# Altium integrated library Renesas Microcontroller H8.IntLib: 489 symbols (part 15 of 25)
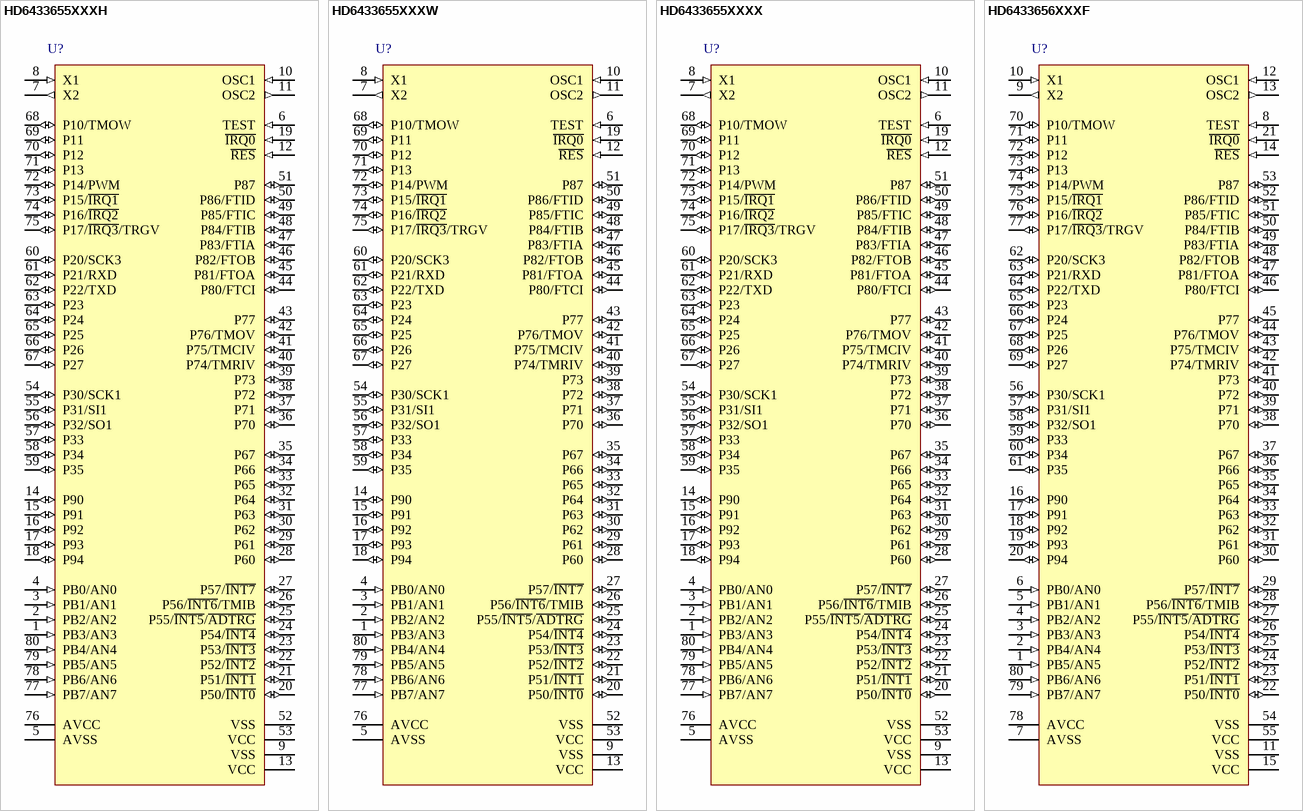
[diagram p102: symbols HD6433655XXXH to HD6433656XXXF]

## HD6433655XXXW
designator U?
H8 Family 8-bit MCU, H8/300L, 40K ROM, 2K RAM, 2.5MHz, 2.2 to 5.5V, 80-Pin QFP; Published: 28-Aug-2009; DatasheetVersion: Oct-1997; PackageVersion: Sep-2005; PackageReference: PTQP0080KC-A; Publisher: Altium Limited; PackageDescription: 80-Pin Plastic Thin Quad Flat Pack, 12 x 12 x 1.0 mm Body, 0.5 mm Pitch; Code_JEITA: P-TQFP80-12x12-0.50; ComponentLink1Description: Manufacturer Link; ComponentLink1URL: http://sg.renesas.com/fmwk.jsp?cnt=h8_family_landing.jsp&fp=/products/mpumcu/h8_family/; ComponentLink2Description: Datasheet; ComponentLink2URL: http://documentation.renesas.com/eng/products/mpumcu/e602134_h83657.pdf; ComponentLink3Description: Packaging Specification; ComponentLink3URL: http://sg.renesas.com/media/products/common_info/package/pdf/ic/code/ptqp0080kc_a.pdf
footprint PTQP0080KC-A_N (Thin QFP, 80-Leads, Body 12x12mm, Pitch 0.5mm, IPC Medium Density)
footprint PTQP0080KC-A_L (Thin QFP, 80-Leads, Body 12x12mm, Pitch 0.5mm, IPC High Density)
footprint PTQP0080KC-A_M (Thin QFP, 80-Leads, Body 12x12mm, Pitch 0.5mm, IPC Low Density)
pins: 1 PB3/AN3 (in), 2 PB2/AN2 (in), 3 PB1/AN1 (in), 4 PB0/AN0 (in), 5 AVSS (power), 6 TEST (in), 7 X2 (out), 8 X1 (in), 9 VSS (power), 10 OSC1 (in), 11 OSC2 (out), 12 ~{RES} (in), 13 VCC (power), 14 P90 (io), 15 P91 (io), 16 P92 (io), 17 P93 (io), 18 P94 (io), 19 ~{IRQ0} (in), 20 P50/~{INT0} (io), 21 P51/~{INT1} (io), 22 P52/~{INT2} (io), 23 P53/~{INT3} (io), 24 P54/~{INT4} (io), 25 P55/~{INT5}/~{ADTRG} (io), 26 P56/~{INT6}/TMIB (io), 27 P57/~{INT7} (io), 28 P60 (io), 29 P61 (io), 30 P62 (io), 31 P63 (io), 32 P64 (io), 33 P65 (io), 34 P66 (io), 35 P67 (io), 36 P70 (io), 37 P71 (io), 38 P72 (io), 39 P73 (io), 40 P74/TMRIV (io), 41 P75/TMCIV (io), 42 P76/TMOV (io), 43 P77 (io), 44 P80/FTCI (io), 45 P81/FTOA (io), 46 P82/FTOB (io), 47 P83/FTIA (io), 48 P84/FTIB (io), 49 P85/FTIC (io), 50 P86/FTID (io), 51 P87 (io), 52 VSS (power), 53 VCC (power), 54 P30/SCK1 (io), 55 P31/SI1 (io), 56 P32/SO1 (io), 57 P33 (io), 58 P34 (io), 59 P35 (io), 60 P20/SCK3 (io), 61 P21/RXD (io), 62 P22/TXD (io), 63 P23 (io), 64 P24 (io), 65 P25 (io), 66 P26 (io), 67 P27 (io), 68 P10/TMOW (io), 69 P11 (io), 70 P12 (io), 71 P13 (io), 72 P14/PWM (io), 73 P15/~{IRQ1} (io), 74 P16/~{IRQ2} (io), 75 P17/~{IRQ3}/TRGV (io), 76 AVCC (power), 77 PB7/AN7 (in), 78 PB6/AN6 (in), 79 PB5/AN5 (in), 80 PB4/AN4 (in)

## HD6433655XXXX
designator U?
H8 Family 8-bit MCU, H8/300L, 40K ROM, 2K RAM, 2.5MHz, 2.2 to 5.5V, 80-Pin QFP; Published: 28-Aug-2009; DatasheetVersion: Oct-1997; PackageVersion: Sep-2005; PackageReference: PTQP0080JA-B; Publisher: Altium Limited; PackageDescription: 80-Pin Plastic Thin Quad Flat Pack, 14 x 14 x 1.0 mm Body, 0.65 mm Pitch; Code_JEITA: P-TQFP80-14x14-0.65; ComponentLink1Description: Manufacturer Link; ComponentLink1URL: http://sg.renesas.com/fmwk.jsp?cnt=h8_family_landing.jsp&fp=/products/mpumcu/h8_family/; ComponentLink2Description: Datasheet; ComponentLink2URL: http://documentation.renesas.com/eng/products/mpumcu/e602134_h83657.pdf; ComponentLink3Description: Packaging Specification; ComponentLink3URL: http://sg.renesas.com/media/products/common_info/package/pdf/ic/code/ptqp0080ja_b.pdf
footprint PTQP0080JA-B_N (Thin QFP, 80-Leads, Body 14 x 14mm, Pitch 0.65mm, IPC Medium Density)
footprint PTQP0080JA-B_L (Thin QFP, 80-Leads, Body 14 x 14mm, Pitch 0.65mm, IPC High Density)
footprint PTQP0080JA-B_M (Thin QFP, 80-Leads, Body 14 x 14mm, Pitch 0.65mm, IPC Low Density)
pins: 1 PB3/AN3 (in), 2 PB2/AN2 (in), 3 PB1/AN1 (in), 4 PB0/AN0 (in), 5 AVSS (power), 6 TEST (in), 7 X2 (out), 8 X1 (in), 9 VSS (power), 10 OSC1 (in), 11 OSC2 (out), 12 ~{RES} (in), 13 VCC (power), 14 P90 (io), 15 P91 (io), 16 P92 (io), 17 P93 (io), 18 P94 (io), 19 ~{IRQ0} (in), 20 P50/~{INT0} (io), 21 P51/~{INT1} (io), 22 P52/~{INT2} (io), 23 P53/~{INT3} (io), 24 P54/~{INT4} (io), 25 P55/~{INT5}/~{ADTRG} (io), 26 P56/~{INT6}/TMIB (io), 27 P57/~{INT7} (io), 28 P60 (io), 29 P61 (io), 30 P62 (io), 31 P63 (io), 32 P64 (io), 33 P65 (io), 34 P66 (io), 35 P67 (io), 36 P70 (io), 37 P71 (io), 38 P72 (io), 39 P73 (io), 40 P74/TMRIV (io), 41 P75/TMCIV (io), 42 P76/TMOV (io), 43 P77 (io), 44 P80/FTCI (io), 45 P81/FTOA (io), 46 P82/FTOB (io), 47 P83/FTIA (io), 48 P84/FTIB (io), 49 P85/FTIC (io), 50 P86/FTID (io), 51 P87 (io), 52 VSS (power), 53 VCC (power), 54 P30/SCK1 (io), 55 P31/SI1 (io), 56 P32/SO1 (io), 57 P33 (io), 58 P34 (io), 59 P35 (io), 60 P20/SCK3 (io), 61 P21/RXD (io), 62 P22/TXD (io), 63 P23 (io), 64 P24 (io), 65 P25 (io), 66 P26 (io), 67 P27 (io), 68 P10/TMOW (io), 69 P11 (io), 70 P12 (io), 71 P13 (io), 72 P14/PWM (io), 73 P15/~{IRQ1} (io), 74 P16/~{IRQ2} (io), 75 P17/~{IRQ3}/TRGV (io), 76 AVCC (power), 77 PB7/AN7 (in), 78 PB6/AN6 (in), 79 PB5/AN5 (in), 80 PB4/AN4 (in)

## HD6433656XXXF
designator U?
H8 Family 8-bit MCU, H8/300L, 48K ROM, 2K RAM, 2.5MHz, 2.2 to 5.5V, 80-Pin QFP; Published: 28-Aug-2009; DatasheetVersion: Oct-1997; PackageVersion: Sep-2005; PackageReference: PRQP0080GD-B; Publisher: Altium Limited; PackageDescription: 80-Pin Plastic Quad Flat Pack, 20 x 14 x 2.7 mm Body, 0.8 mm Pitch; Code_JEITA: P-QFP80-14x20-0.80; ComponentLink1Description: Manufacturer Link; ComponentLink1URL: http://sg.renesas.com/fmwk.jsp?cnt=h8_family_landing.jsp&fp=/products/mpumcu/h8_family/; ComponentLink2Description: Datasheet; ComponentLink2URL: http://documentation.renesas.com/eng/products/mpumcu/e602134_h83657.pdf; ComponentLink3Description: Packaging Specification; ComponentLink3URL: http://sg.renesas.com/media/products/common_info/package/pdf/ic/code/prqp0080gd_b.pdf
footprint PRQP0080GD-B_N (QFP, 80-Leads, Body 20x14mm, Pitch 0.8mm, IPC Medium Density)
footprint PRQP0080GD-B_L (QFP, 80-Leads, Body 20x14mm, Pitch 0.8mm, IPC High Density)
footprint PRQP0080GD-B_M (QFP, 80-Leads, Body 20x14mm, Pitch 0.8mm, IPC Low Density)
pins: 1 PB5/AN5 (in), 2 PB4/AN4 (in), 3 PB3/AN3 (in), 4 PB2/AN2 (in), 5 PB1/AN1 (in), 6 PB0/AN0 (in), 7 AVSS (power), 8 TEST (in), 9 X2 (out), 10 X1 (in), 11 VSS (power), 12 OSC1 (in), 13 OSC2 (out), 14 ~{RES} (in), 15 VCC (power), 16 P90 (io), 17 P91 (io), 18 P92 (io), 19 P93 (io), 20 P94 (io), 21 ~{IRQ0} (in), 22 P50/~{INT0} (io), 23 P51/~{INT1} (io), 24 P52/~{INT2} (io), 25 P53/~{INT3} (io), 26 P54/~{INT4} (io), 27 P55/~{INT5}/~{ADTRG} (io), 28 P56/~{INT6}/TMIB (io), 29 P57/~{INT7} (io), 30 P60 (io), 31 P61 (io), 32 P62 (io), 33 P63 (io), 34 P64 (io), 35 P65 (io), 36 P66 (io), 37 P67 (io), 38 P70 (io), 39 P71 (io), 40 P72 (io), 41 P73 (io), 42 P74/TMRIV (io), 43 P75/TMCIV (io), 44 P76/TMOV (io), 45 P77 (io), 46 P80/FTCI (io), 47 P81/FTOA (io), 48 P82/FTOB (io), 49 P83/FTIA (io), 50 P84/FTIB (io), 51 P85/FTIC (io), 52 P86/FTID (io), 53 P87 (io), 54 VSS (power), 55 VCC (power), 56 P30/SCK1 (io), 57 P31/SI1 (io), 58 P32/SO1 (io), 59 P33 (io), 60 P34 (io), 61 P35 (io), 62 P20/SCK3 (io), 63 P21/RXD (io), 64 P22/TXD (io), 65 P23 (io), 66 P24 (io), 67 P25 (io), 68 P26 (io), 69 P27 (io), 70 P10/TMOW (io), 71 P11 (io), 72 P12 (io), 73 P13 (io), 74 P14/PWM (io), 75 P15/~{IRQ1} (io), 76 P16/~{IRQ2} (io), 77 P17/~{IRQ3}/TRGV (io), 78 AVCC (power), 79 PB7/AN7 (in), 80 PB6/AN6 (in)

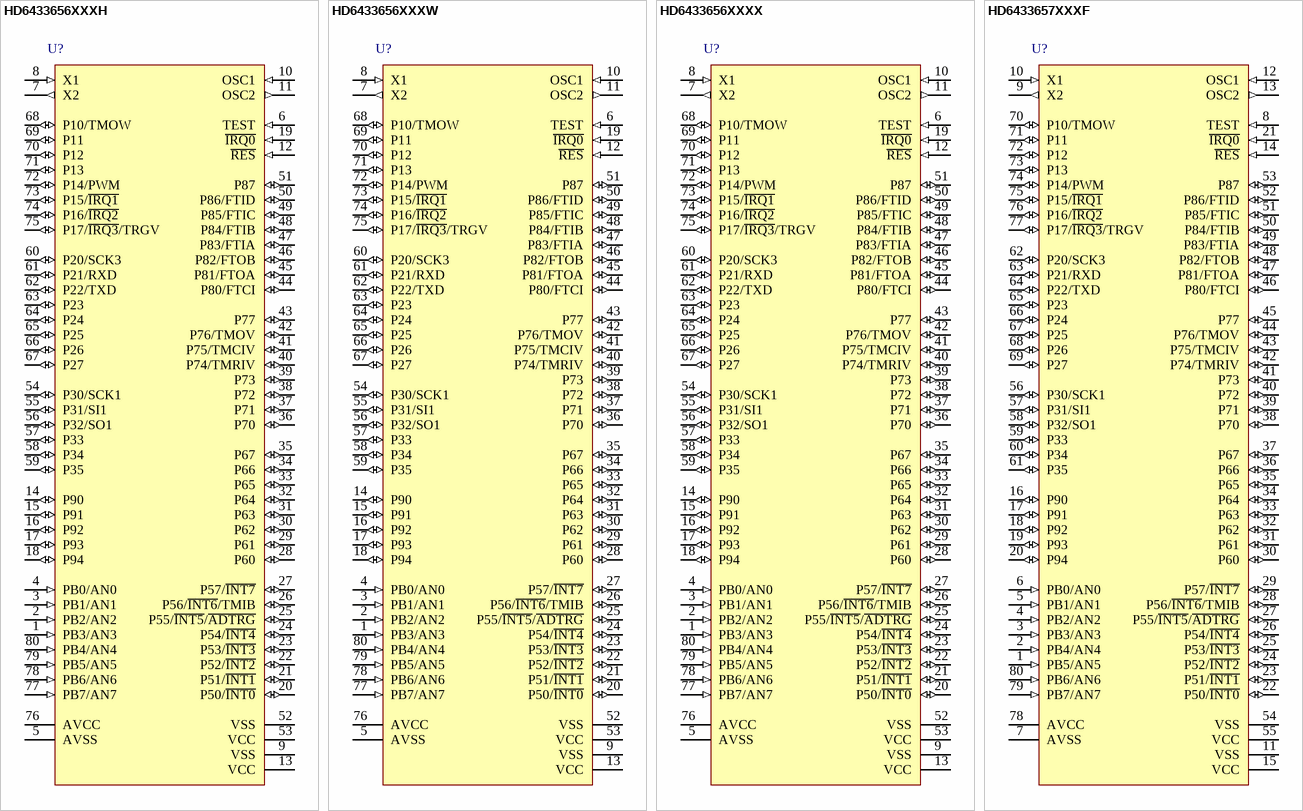
[diagram p54: symbols HD6433656XXXH to HD6433657XXXF]

## HD6433656XXXH
designator U?
H8 Family 8-bit MCU, H8/300L, 48K ROM, 2K RAM, 2.5MHz, 2.2 to 5.5V, 80-Pin QFP; Published: 28-Aug-2009; DatasheetVersion: Oct-1997; PackageVersion: Sep-2005; PackageReference: PRQP0080JB-A; Publisher: Altium Limited; PackageDescription: 80-Pin Plastic Quad Flat Pack, 14 x 14 x 2.7 mm Body, 0.65 mm Pitch; Code_JEITA: P-QFP80-14x14-0.65; Code_IPC: QFP65P1720X1720-80; ComponentLink1Description: Manufacturer Link; ComponentLink1URL: http://sg.renesas.com/fmwk.jsp?cnt=h8_family_landing.jsp&fp=/products/mpumcu/h8_family/; ComponentLink2Description: Datasheet; ComponentLink2URL: http://documentation.renesas.com/eng/products/mpumcu/e602134_h83657.pdf; ComponentLink3Description: Packaging Specification; ComponentLink3URL: http://sg.renesas.com/media/products/common_info/package/pdf/ic/code/prqp0080jb_a.pdf
footprint PRQP0080JB-A_N (QFP, 80-Leads, Body 14x14mm, Pitch 0.65mm, IPC Medium Density)
footprint PRQP0080JB-A_L (QFP, 80-Leads, Body 14x14mm, Pitch 0.65mm, IPC High Density)
footprint PRQP0080JB-A_M (QFP, 80-Leads, Body 14x14mm, Pitch 0.65mm, IPC Low Density)
pins: 1 PB3/AN3 (in), 2 PB2/AN2 (in), 3 PB1/AN1 (in), 4 PB0/AN0 (in), 5 AVSS (power), 6 TEST (in), 7 X2 (out), 8 X1 (in), 9 VSS (power), 10 OSC1 (in), 11 OSC2 (out), 12 ~{RES} (in), 13 VCC (power), 14 P90 (io), 15 P91 (io), 16 P92 (io), 17 P93 (io), 18 P94 (io), 19 ~{IRQ0} (in), 20 P50/~{INT0} (io), 21 P51/~{INT1} (io), 22 P52/~{INT2} (io), 23 P53/~{INT3} (io), 24 P54/~{INT4} (io), 25 P55/~{INT5}/~{ADTRG} (io), 26 P56/~{INT6}/TMIB (io), 27 P57/~{INT7} (io), 28 P60 (io), 29 P61 (io), 30 P62 (io), 31 P63 (io), 32 P64 (io), 33 P65 (io), 34 P66 (io), 35 P67 (io), 36 P70 (io), 37 P71 (io), 38 P72 (io), 39 P73 (io), 40 P74/TMRIV (io), 41 P75/TMCIV (io), 42 P76/TMOV (io), 43 P77 (io), 44 P80/FTCI (io), 45 P81/FTOA (io), 46 P82/FTOB (io), 47 P83/FTIA (io), 48 P84/FTIB (io), 49 P85/FTIC (io), 50 P86/FTID (io), 51 P87 (io), 52 VSS (power), 53 VCC (power), 54 P30/SCK1 (io), 55 P31/SI1 (io), 56 P32/SO1 (io), 57 P33 (io), 58 P34 (io), 59 P35 (io), 60 P20/SCK3 (io), 61 P21/RXD (io), 62 P22/TXD (io), 63 P23 (io), 64 P24 (io), 65 P25 (io), 66 P26 (io), 67 P27 (io), 68 P10/TMOW (io), 69 P11 (io), 70 P12 (io), 71 P13 (io), 72 P14/PWM (io), 73 P15/~{IRQ1} (io), 74 P16/~{IRQ2} (io), 75 P17/~{IRQ3}/TRGV (io), 76 AVCC (power), 77 PB7/AN7 (in), 78 PB6/AN6 (in), 79 PB5/AN5 (in), 80 PB4/AN4 (in)

## HD6433656XXXW
designator U?
H8 Family 8-bit MCU, H8/300L, 48K ROM, 2K RAM, 2.5MHz, 2.2 to 5.5V, 80-Pin QFP; Published: 28-Aug-2009; DatasheetVersion: Oct-1997; PackageVersion: Sep-2005; PackageReference: PTQP0080KC-A; Publisher: Altium Limited; PackageDescription: 80-Pin Plastic Thin Quad Flat Pack, 12 x 12 x 1.0 mm Body, 0.5 mm Pitch; Code_JEITA: P-TQFP80-12x12-0.50; ComponentLink1Description: Manufacturer Link; ComponentLink1URL: http://sg.renesas.com/fmwk.jsp?cnt=h8_family_landing.jsp&fp=/products/mpumcu/h8_family/; ComponentLink2Description: Datasheet; ComponentLink2URL: http://documentation.renesas.com/eng/products/mpumcu/e602134_h83657.pdf; ComponentLink3Description: Packaging Specification; ComponentLink3URL: http://sg.renesas.com/media/products/common_info/package/pdf/ic/code/ptqp0080kc_a.pdf
footprint PTQP0080KC-A_N (Thin QFP, 80-Leads, Body 12x12mm, Pitch 0.5mm, IPC Medium Density)
footprint PTQP0080KC-A_L (Thin QFP, 80-Leads, Body 12x12mm, Pitch 0.5mm, IPC High Density)
footprint PTQP0080KC-A_M (Thin QFP, 80-Leads, Body 12x12mm, Pitch 0.5mm, IPC Low Density)
pins: 1 PB3/AN3 (in), 2 PB2/AN2 (in), 3 PB1/AN1 (in), 4 PB0/AN0 (in), 5 AVSS (power), 6 TEST (in), 7 X2 (out), 8 X1 (in), 9 VSS (power), 10 OSC1 (in), 11 OSC2 (out), 12 ~{RES} (in), 13 VCC (power), 14 P90 (io), 15 P91 (io), 16 P92 (io), 17 P93 (io), 18 P94 (io), 19 ~{IRQ0} (in), 20 P50/~{INT0} (io), 21 P51/~{INT1} (io), 22 P52/~{INT2} (io), 23 P53/~{INT3} (io), 24 P54/~{INT4} (io), 25 P55/~{INT5}/~{ADTRG} (io), 26 P56/~{INT6}/TMIB (io), 27 P57/~{INT7} (io), 28 P60 (io), 29 P61 (io), 30 P62 (io), 31 P63 (io), 32 P64 (io), 33 P65 (io), 34 P66 (io), 35 P67 (io), 36 P70 (io), 37 P71 (io), 38 P72 (io), 39 P73 (io), 40 P74/TMRIV (io), 41 P75/TMCIV (io), 42 P76/TMOV (io), 43 P77 (io), 44 P80/FTCI (io), 45 P81/FTOA (io), 46 P82/FTOB (io), 47 P83/FTIA (io), 48 P84/FTIB (io), 49 P85/FTIC (io), 50 P86/FTID (io), 51 P87 (io), 52 VSS (power), 53 VCC (power), 54 P30/SCK1 (io), 55 P31/SI1 (io), 56 P32/SO1 (io), 57 P33 (io), 58 P34 (io), 59 P35 (io), 60 P20/SCK3 (io), 61 P21/RXD (io), 62 P22/TXD (io), 63 P23 (io), 64 P24 (io), 65 P25 (io), 66 P26 (io), 67 P27 (io), 68 P10/TMOW (io), 69 P11 (io), 70 P12 (io), 71 P13 (io), 72 P14/PWM (io), 73 P15/~{IRQ1} (io), 74 P16/~{IRQ2} (io), 75 P17/~{IRQ3}/TRGV (io), 76 AVCC (power), 77 PB7/AN7 (in), 78 PB6/AN6 (in), 79 PB5/AN5 (in), 80 PB4/AN4 (in)

## HD6433656XXXX
designator U?
H8 Family 8-bit MCU, H8/300L, 48K ROM, 2K RAM, 2.5MHz, 2.2 to 5.5V, 80-Pin QFP; Published: 28-Aug-2009; DatasheetVersion: Oct-1997; PackageVersion: Sep-2005; PackageReference: PTQP0080JA-B; Publisher: Altium Limited; PackageDescription: 80-Pin Plastic Thin Quad Flat Pack, 14 x 14 x 1.0 mm Body, 0.65 mm Pitch; Code_JEITA: P-TQFP80-14x14-0.65; ComponentLink1Description: Manufacturer Link; ComponentLink1URL: http://sg.renesas.com/fmwk.jsp?cnt=h8_family_landing.jsp&fp=/products/mpumcu/h8_family/; ComponentLink2Description: Datasheet; ComponentLink2URL: http://documentation.renesas.com/eng/products/mpumcu/e602134_h83657.pdf; ComponentLink3Description: Packaging Specification; ComponentLink3URL: http://sg.renesas.com/media/products/common_info/package/pdf/ic/code/ptqp0080ja_b.pdf
footprint PTQP0080JA-B_N (Thin QFP, 80-Leads, Body 14 x 14mm, Pitch 0.65mm, IPC Medium Density)
footprint PTQP0080JA-B_L (Thin QFP, 80-Leads, Body 14 x 14mm, Pitch 0.65mm, IPC High Density)
footprint PTQP0080JA-B_M (Thin QFP, 80-Leads, Body 14 x 14mm, Pitch 0.65mm, IPC Low Density)
pins: 1 PB3/AN3 (in), 2 PB2/AN2 (in), 3 PB1/AN1 (in), 4 PB0/AN0 (in), 5 AVSS (power), 6 TEST (in), 7 X2 (out), 8 X1 (in), 9 VSS (power), 10 OSC1 (in), 11 OSC2 (out), 12 ~{RES} (in), 13 VCC (power), 14 P90 (io), 15 P91 (io), 16 P92 (io), 17 P93 (io), 18 P94 (io), 19 ~{IRQ0} (in), 20 P50/~{INT0} (io), 21 P51/~{INT1} (io), 22 P52/~{INT2} (io), 23 P53/~{INT3} (io), 24 P54/~{INT4} (io), 25 P55/~{INT5}/~{ADTRG} (io), 26 P56/~{INT6}/TMIB (io), 27 P57/~{INT7} (io), 28 P60 (io), 29 P61 (io), 30 P62 (io), 31 P63 (io), 32 P64 (io), 33 P65 (io), 34 P66 (io), 35 P67 (io), 36 P70 (io), 37 P71 (io), 38 P72 (io), 39 P73 (io), 40 P74/TMRIV (io), 41 P75/TMCIV (io), 42 P76/TMOV (io), 43 P77 (io), 44 P80/FTCI (io), 45 P81/FTOA (io), 46 P82/FTOB (io), 47 P83/FTIA (io), 48 P84/FTIB (io), 49 P85/FTIC (io), 50 P86/FTID (io), 51 P87 (io), 52 VSS (power), 53 VCC (power), 54 P30/SCK1 (io), 55 P31/SI1 (io), 56 P32/SO1 (io), 57 P33 (io), 58 P34 (io), 59 P35 (io), 60 P20/SCK3 (io), 61 P21/RXD (io), 62 P22/TXD (io), 63 P23 (io), 64 P24 (io), 65 P25 (io), 66 P26 (io), 67 P27 (io), 68 P10/TMOW (io), 69 P11 (io), 70 P12 (io), 71 P13 (io), 72 P14/PWM (io), 73 P15/~{IRQ1} (io), 74 P16/~{IRQ2} (io), 75 P17/~{IRQ3}/TRGV (io), 76 AVCC (power), 77 PB7/AN7 (in), 78 PB6/AN6 (in), 79 PB5/AN5 (in), 80 PB4/AN4 (in)

## HD6433657XXXF
designator U?
H8 Family 8-bit MCU, H8/300L, 60K ROM, 2K RAM, 2.5MHz, 2.2 to 5.5V, 80-Pin QFP; Published: 28-Aug-2009; DatasheetVersion: Oct-1997; PackageVersion: Sep-2005; PackageReference: PRQP0080GD-B; Publisher: Altium Limited; PackageDescription: 80-Pin Plastic Quad Flat Pack, 20 x 14 x 2.7 mm Body, 0.8 mm Pitch; Code_JEITA: P-QFP80-14x20-0.80; ComponentLink1Description: Manufacturer Link; ComponentLink1URL: http://sg.renesas.com/fmwk.jsp?cnt=h8_family_landing.jsp&fp=/products/mpumcu/h8_family/; ComponentLink2Description: Datasheet; ComponentLink2URL: http://documentation.renesas.com/eng/products/mpumcu/e602134_h83657.pdf; ComponentLink3Description: Packaging Specification; ComponentLink3URL: http://sg.renesas.com/media/products/common_info/package/pdf/ic/code/prqp0080gd_b.pdf
footprint PRQP0080GD-B_N (QFP, 80-Leads, Body 20x14mm, Pitch 0.8mm, IPC Medium Density)
footprint PRQP0080GD-B_L (QFP, 80-Leads, Body 20x14mm, Pitch 0.8mm, IPC High Density)
footprint PRQP0080GD-B_M (QFP, 80-Leads, Body 20x14mm, Pitch 0.8mm, IPC Low Density)
pins: 1 PB5/AN5 (in), 2 PB4/AN4 (in), 3 PB3/AN3 (in), 4 PB2/AN2 (in), 5 PB1/AN1 (in), 6 PB0/AN0 (in), 7 AVSS (power), 8 TEST (in), 9 X2 (out), 10 X1 (in), 11 VSS (power), 12 OSC1 (in), 13 OSC2 (out), 14 ~{RES} (in), 15 VCC (power), 16 P90 (io), 17 P91 (io), 18 P92 (io), 19 P93 (io), 20 P94 (io), 21 ~{IRQ0} (in), 22 P50/~{INT0} (io), 23 P51/~{INT1} (io), 24 P52/~{INT2} (io), 25 P53/~{INT3} (io), 26 P54/~{INT4} (io), 27 P55/~{INT5}/~{ADTRG} (io), 28 P56/~{INT6}/TMIB (io), 29 P57/~{INT7} (io), 30 P60 (io), 31 P61 (io), 32 P62 (io), 33 P63 (io), 34 P64 (io), 35 P65 (io), 36 P66 (io), 37 P67 (io), 38 P70 (io), 39 P71 (io), 40 P72 (io), 41 P73 (io), 42 P74/TMRIV (io), 43 P75/TMCIV (io), 44 P76/TMOV (io), 45 P77 (io), 46 P80/FTCI (io), 47 P81/FTOA (io), 48 P82/FTOB (io), 49 P83/FTIA (io), 50 P84/FTIB (io), 51 P85/FTIC (io), 52 P86/FTID (io), 53 P87 (io), 54 VSS (power), 55 VCC (power), 56 P30/SCK1 (io), 57 P31/SI1 (io), 58 P32/SO1 (io), 59 P33 (io), 60 P34 (io), 61 P35 (io), 62 P20/SCK3 (io), 63 P21/RXD (io), 64 P22/TXD (io), 65 P23 (io), 66 P24 (io), 67 P25 (io), 68 P26 (io), 69 P27 (io), 70 P10/TMOW (io), 71 P11 (io), 72 P12 (io), 73 P13 (io), 74 P14/PWM (io), 75 P15/~{IRQ1} (io), 76 P16/~{IRQ2} (io), 77 P17/~{IRQ3}/TRGV (io), 78 AVCC (power), 79 PB7/AN7 (in), 80 PB6/AN6 (in)

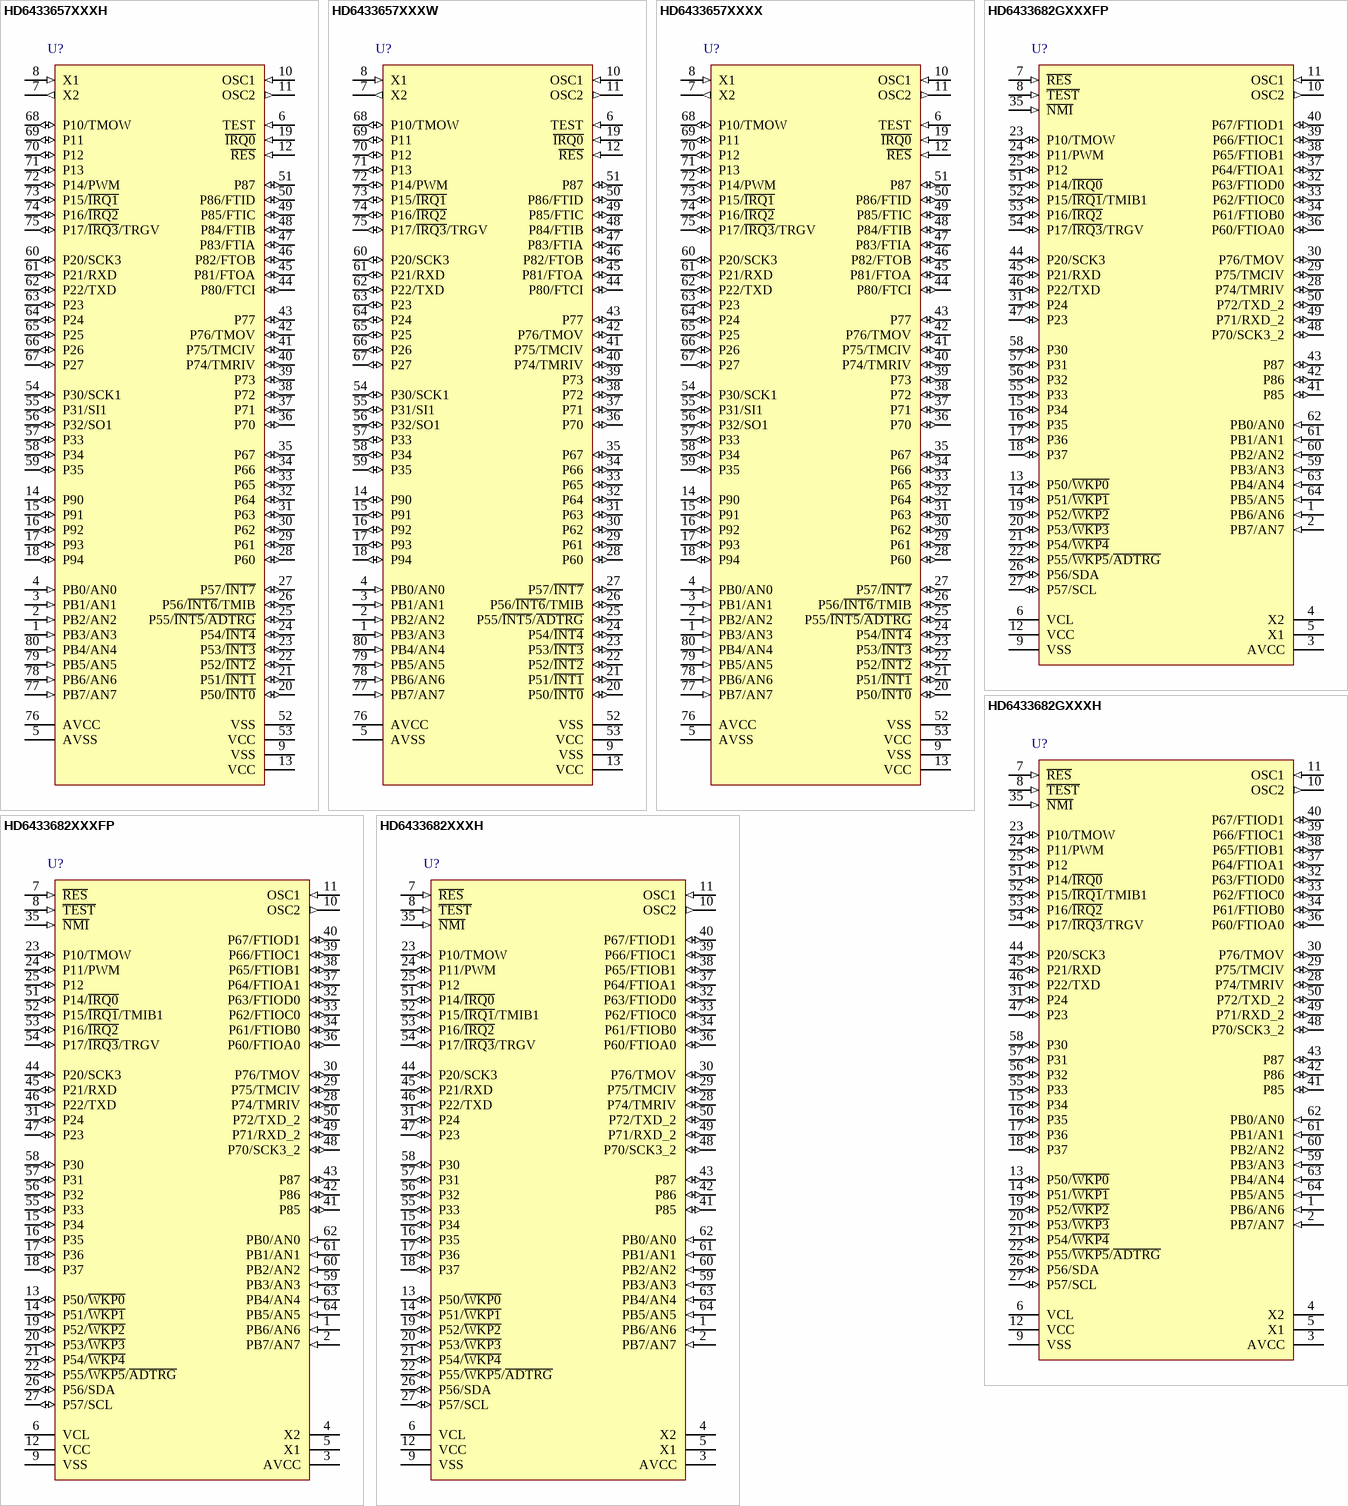
[diagram p55: symbols HD6433657XXXH to HD6433682XXXH]

## HD6433657XXXH
designator U?
H8 Family 8-bit MCU, H8/300L, 60K ROM, 2K RAM, 2.5MHz, 2.2 to 5.5V, 80-Pin QFP; Published: 28-Aug-2009; DatasheetVersion: Oct-1997; PackageVersion: Sep-2005; PackageReference: PRQP0080JB-A; Publisher: Altium Limited; PackageDescription: 80-Pin Plastic Quad Flat Pack, 14 x 14 x 2.7 mm Body, 0.65 mm Pitch; Code_JEITA: P-QFP80-14x14-0.65; Code_IPC: QFP65P1720X1720-80; ComponentLink1Description: Manufacturer Link; ComponentLink1URL: http://sg.renesas.com/fmwk.jsp?cnt=h8_family_landing.jsp&fp=/products/mpumcu/h8_family/; ComponentLink2Description: Datasheet; ComponentLink2URL: http://documentation.renesas.com/eng/products/mpumcu/e602134_h83657.pdf; ComponentLink3Description: Packaging Specification; ComponentLink3URL: http://sg.renesas.com/media/products/common_info/package/pdf/ic/code/prqp0080jb_a.pdf
footprint PRQP0080JB-A_N (QFP, 80-Leads, Body 14x14mm, Pitch 0.65mm, IPC Medium Density)
footprint PRQP0080JB-A_L (QFP, 80-Leads, Body 14x14mm, Pitch 0.65mm, IPC High Density)
footprint PRQP0080JB-A_M (QFP, 80-Leads, Body 14x14mm, Pitch 0.65mm, IPC Low Density)
pins: 1 PB3/AN3 (in), 2 PB2/AN2 (in), 3 PB1/AN1 (in), 4 PB0/AN0 (in), 5 AVSS (power), 6 TEST (in), 7 X2 (out), 8 X1 (in), 9 VSS (power), 10 OSC1 (in), 11 OSC2 (out), 12 ~{RES} (in), 13 VCC (power), 14 P90 (io), 15 P91 (io), 16 P92 (io), 17 P93 (io), 18 P94 (io), 19 ~{IRQ0} (in), 20 P50/~{INT0} (io), 21 P51/~{INT1} (io), 22 P52/~{INT2} (io), 23 P53/~{INT3} (io), 24 P54/~{INT4} (io), 25 P55/~{INT5}/~{ADTRG} (io), 26 P56/~{INT6}/TMIB (io), 27 P57/~{INT7} (io), 28 P60 (io), 29 P61 (io), 30 P62 (io), 31 P63 (io), 32 P64 (io), 33 P65 (io), 34 P66 (io), 35 P67 (io), 36 P70 (io), 37 P71 (io), 38 P72 (io), 39 P73 (io), 40 P74/TMRIV (io), 41 P75/TMCIV (io), 42 P76/TMOV (io), 43 P77 (io), 44 P80/FTCI (io), 45 P81/FTOA (io), 46 P82/FTOB (io), 47 P83/FTIA (io), 48 P84/FTIB (io), 49 P85/FTIC (io), 50 P86/FTID (io), 51 P87 (io), 52 VSS (power), 53 VCC (power), 54 P30/SCK1 (io), 55 P31/SI1 (io), 56 P32/SO1 (io), 57 P33 (io), 58 P34 (io), 59 P35 (io), 60 P20/SCK3 (io), 61 P21/RXD (io), 62 P22/TXD (io), 63 P23 (io), 64 P24 (io), 65 P25 (io), 66 P26 (io), 67 P27 (io), 68 P10/TMOW (io), 69 P11 (io), 70 P12 (io), 71 P13 (io), 72 P14/PWM (io), 73 P15/~{IRQ1} (io), 74 P16/~{IRQ2} (io), 75 P17/~{IRQ3}/TRGV (io), 76 AVCC (power), 77 PB7/AN7 (in), 78 PB6/AN6 (in), 79 PB5/AN5 (in), 80 PB4/AN4 (in)

## HD6433657XXXW
designator U?
H8 Family 8-bit MCU, H8/300L, 60K ROM, 2K RAM, 2.5MHz, 2.2 to 5.5V, 80-Pin QFP; Published: 28-Aug-2009; DatasheetVersion: Oct-1997; PackageVersion: Sep-2005; PackageReference: PTQP0080KC-A; Publisher: Altium Limited; PackageDescription: 80-Pin Plastic Thin Quad Flat Pack, 12 x 12 x 1.0 mm Body, 0.5 mm Pitch; Code_JEITA: P-TQFP80-12x12-0.50; ComponentLink1Description: Manufacturer Link; ComponentLink1URL: http://sg.renesas.com/fmwk.jsp?cnt=h8_family_landing.jsp&fp=/products/mpumcu/h8_family/; ComponentLink2Description: Datasheet; ComponentLink2URL: http://documentation.renesas.com/eng/products/mpumcu/e602134_h83657.pdf; ComponentLink3Description: Packaging Specification; ComponentLink3URL: http://sg.renesas.com/media/products/common_info/package/pdf/ic/code/ptqp0080kc_a.pdf
footprint PTQP0080KC-A_N (Thin QFP, 80-Leads, Body 12x12mm, Pitch 0.5mm, IPC Medium Density)
footprint PTQP0080KC-A_L (Thin QFP, 80-Leads, Body 12x12mm, Pitch 0.5mm, IPC High Density)
footprint PTQP0080KC-A_M (Thin QFP, 80-Leads, Body 12x12mm, Pitch 0.5mm, IPC Low Density)
pins: 1 PB3/AN3 (in), 2 PB2/AN2 (in), 3 PB1/AN1 (in), 4 PB0/AN0 (in), 5 AVSS (power), 6 TEST (in), 7 X2 (out), 8 X1 (in), 9 VSS (power), 10 OSC1 (in), 11 OSC2 (out), 12 ~{RES} (in), 13 VCC (power), 14 P90 (io), 15 P91 (io), 16 P92 (io), 17 P93 (io), 18 P94 (io), 19 ~{IRQ0} (in), 20 P50/~{INT0} (io), 21 P51/~{INT1} (io), 22 P52/~{INT2} (io), 23 P53/~{INT3} (io), 24 P54/~{INT4} (io), 25 P55/~{INT5}/~{ADTRG} (io), 26 P56/~{INT6}/TMIB (io), 27 P57/~{INT7} (io), 28 P60 (io), 29 P61 (io), 30 P62 (io), 31 P63 (io), 32 P64 (io), 33 P65 (io), 34 P66 (io), 35 P67 (io), 36 P70 (io), 37 P71 (io), 38 P72 (io), 39 P73 (io), 40 P74/TMRIV (io), 41 P75/TMCIV (io), 42 P76/TMOV (io), 43 P77 (io), 44 P80/FTCI (io), 45 P81/FTOA (io), 46 P82/FTOB (io), 47 P83/FTIA (io), 48 P84/FTIB (io), 49 P85/FTIC (io), 50 P86/FTID (io), 51 P87 (io), 52 VSS (power), 53 VCC (power), 54 P30/SCK1 (io), 55 P31/SI1 (io), 56 P32/SO1 (io), 57 P33 (io), 58 P34 (io), 59 P35 (io), 60 P20/SCK3 (io), 61 P21/RXD (io), 62 P22/TXD (io), 63 P23 (io), 64 P24 (io), 65 P25 (io), 66 P26 (io), 67 P27 (io), 68 P10/TMOW (io), 69 P11 (io), 70 P12 (io), 71 P13 (io), 72 P14/PWM (io), 73 P15/~{IRQ1} (io), 74 P16/~{IRQ2} (io), 75 P17/~{IRQ3}/TRGV (io), 76 AVCC (power), 77 PB7/AN7 (in), 78 PB6/AN6 (in), 79 PB5/AN5 (in), 80 PB4/AN4 (in)

## HD6433657XXXX
designator U?
H8 Family 8-bit MCU, H8/300L, 60K ROM, 2K RAM, 2.5MHz, 2.2 to 5.5V, 80-Pin QFP; Published: 28-Aug-2009; DatasheetVersion: Oct-1997; PackageVersion: Sep-2005; PackageReference: PTQP0080JA-B; Publisher: Altium Limited; PackageDescription: 80-Pin Plastic Thin Quad Flat Pack, 14 x 14 x 1.0 mm Body, 0.65 mm Pitch; Code_JEITA: P-TQFP80-14x14-0.65; ComponentLink1Description: Manufacturer Link; ComponentLink1URL: http://sg.renesas.com/fmwk.jsp?cnt=h8_family_landing.jsp&fp=/products/mpumcu/h8_family/; ComponentLink2Description: Datasheet; ComponentLink2URL: http://documentation.renesas.com/eng/products/mpumcu/e602134_h83657.pdf; ComponentLink3Description: Packaging Specification; ComponentLink3URL: http://sg.renesas.com/media/products/common_info/package/pdf/ic/code/ptqp0080ja_b.pdf
footprint PTQP0080JA-B_N (Thin QFP, 80-Leads, Body 14 x 14mm, Pitch 0.65mm, IPC Medium Density)
footprint PTQP0080JA-B_L (Thin QFP, 80-Leads, Body 14 x 14mm, Pitch 0.65mm, IPC High Density)
footprint PTQP0080JA-B_M (Thin QFP, 80-Leads, Body 14 x 14mm, Pitch 0.65mm, IPC Low Density)
pins: 1 PB3/AN3 (in), 2 PB2/AN2 (in), 3 PB1/AN1 (in), 4 PB0/AN0 (in), 5 AVSS (power), 6 TEST (in), 7 X2 (out), 8 X1 (in), 9 VSS (power), 10 OSC1 (in), 11 OSC2 (out), 12 ~{RES} (in), 13 VCC (power), 14 P90 (io), 15 P91 (io), 16 P92 (io), 17 P93 (io), 18 P94 (io), 19 ~{IRQ0} (in), 20 P50/~{INT0} (io), 21 P51/~{INT1} (io), 22 P52/~{INT2} (io), 23 P53/~{INT3} (io), 24 P54/~{INT4} (io), 25 P55/~{INT5}/~{ADTRG} (io), 26 P56/~{INT6}/TMIB (io), 27 P57/~{INT7} (io), 28 P60 (io), 29 P61 (io), 30 P62 (io), 31 P63 (io), 32 P64 (io), 33 P65 (io), 34 P66 (io), 35 P67 (io), 36 P70 (io), 37 P71 (io), 38 P72 (io), 39 P73 (io), 40 P74/TMRIV (io), 41 P75/TMCIV (io), 42 P76/TMOV (io), 43 P77 (io), 44 P80/FTCI (io), 45 P81/FTOA (io), 46 P82/FTOB (io), 47 P83/FTIA (io), 48 P84/FTIB (io), 49 P85/FTIC (io), 50 P86/FTID (io), 51 P87 (io), 52 VSS (power), 53 VCC (power), 54 P30/SCK1 (io), 55 P31/SI1 (io), 56 P32/SO1 (io), 57 P33 (io), 58 P34 (io), 59 P35 (io), 60 P20/SCK3 (io), 61 P21/RXD (io), 62 P22/TXD (io), 63 P23 (io), 64 P24 (io), 65 P25 (io), 66 P26 (io), 67 P27 (io), 68 P10/TMOW (io), 69 P11 (io), 70 P12 (io), 71 P13 (io), 72 P14/PWM (io), 73 P15/~{IRQ1} (io), 74 P16/~{IRQ2} (io), 75 P17/~{IRQ3}/TRGV (io), 76 AVCC (power), 77 PB7/AN7 (in), 78 PB6/AN6 (in), 79 PB5/AN5 (in), 80 PB4/AN4 (in)

## HD6433682GXXXFP
designator U?
H8 Family 32/16-bit CISC, H8/300H Tiny, 16K ROM, 3K RAM, 1 to 10MHz, 2.7 to 5.5V, 64-Pin QFP; Published: 28-Aug-2009; DatasheetVersion: Rev.5.00, Nov-2005; PackageVersion: Sep-2005; PackageReference: PLQP0064KC-A; Publisher: Altium Limited; PackageDescription: 64-Pin Plastic Low Profile QFP, 10 x 10 x 1.45 mm Body, 0.5 mm Pitch; Code_JEITA: P-LQFP64-10x10-0.50; Code_IPC: SQFP50P1200X1200-64; ComponentLink1Description: Manufacturer Link; ComponentLink1URL: http://sg.renesas.com/fmwk.jsp?cnt=h8_family_landing.jsp&fp=/products/mpumcu/h8_family/; ComponentLink2Description: Datasheet; ComponentLink2URL: http://documentation.renesas.com/eng/products/mpumcu/rej09b0027_h83687.pdf; ComponentLink3Description: Packaging Specification; ComponentLink3URL: http://sg.renesas.com/media/products/common_info/package/pdf/ic/code/plqp0064kc_a.pdf
footprint PLQP0064KC-A_N (Shrink QFP, 64-Leads, Body 10x10mm, Pitch 0.5mm, IPC Medium Density)
footprint PLQP0064KC-A_L (Shrink QFP, 64-Leads, Body 10x10mm, Pitch 0.5mm, IPC High Density)
footprint PLQP0064KC-A_M (Shrink QFP, 64-Leads, Body 10x10mm, Pitch 0.5mm, IPC Low Density)
pins: 1 PB6/AN6 (in), 2 PB7/AN7 (in), 3 AVCC (power), 4 X2, 5 X1, 6 VCL (power), 7 ~{RES} (in), 8 ~{TEST} (in), 9 VSS (power), 10 OSC2 (out), 11 OSC1 (in), 12 VCC (power), 13 P50/~{WKP0} (io), 14 P51/~{WKP1} (io), 15 P34 (io), 16 P35 (io), 17 P36 (io), 18 P37 (io), 19 P52/~{WKP2} (io), 20 P53/~{WKP3} (io), 21 P54/~{WKP4} (io), 22 P55/~{WKP5}/~{ADTRG} (io), 23 P10/TMOW (io), 24 P11/PWM (io), 25 P12 (io), 26 P56/SDA (io), 27 P57/SCL (io), 28 P74/TMRIV (io), 29 P75/TMCIV (io), 30 P76/TMOV (io), 31 P24 (io), 32 P63/FTIOD0 (io), 33 P62/FTIOC0 (io), 34 P61/FTIOB0 (io), 35 ~{NMI} (in), 36 P60/FTIOA0 (io), 37 P64/FTIOA1 (io), 38 P65/FTIOB1 (io), 39 P66/FTIOC1 (io), 40 P67/FTIOD1 (io), 41 P85 (io), 42 P86 (io), 43 P87 (io), 44 P20/SCK3 (io), 45 P21/RXD (io), 46 P22/TXD (io), 47 P23 (io), 48 P70/SCK3_2 (io), 49 P71/RXD_2 (io), 50 P72/TXD_2 (io), 51 P14/~{IRQ0} (io), 52 P15/~{IRQ1}/TMIB1 (io), 53 P16/~{IRQ2} (io), 54 P17/~{IRQ3}/TRGV (io), 55 P33 (io), 56 P32 (io), 57 P31 (io), 58 P30 (io), 59 PB3/AN3 (in), 60 PB2/AN2 (in), 61 PB1/AN1 (in), 62 PB0/AN0 (in), 63 PB4/AN4 (in), 64 PB5/AN5 (in)

## HD6433682GXXXH
designator U?
H8 Family 32/16-bit CISC, H8/300H Tiny, 16K ROM, 3K RAM, 1 to 10MHz, 2.7 to 5.5V, 64-Pin QFP; Published: 28-Aug-2009; DatasheetVersion: Rev.5.00, Nov-2005; PackageVersion: Sep-2005; PackageReference: PRQP0064GB-A; Publisher: Altium Limited; PackageDescription: 64-Pin Plastic Quad Flat Pack, 14 x 14 x 2.7 mm Body, 0.8 mm Pitch; Code_JEITA: P-QFP64-14x14-0.80; ComponentLink1Description: Manufacturer Link; ComponentLink1URL: http://sg.renesas.com/fmwk.jsp?cnt=h8_family_landing.jsp&fp=/products/mpumcu/h8_family/; ComponentLink2Description: Datasheet; ComponentLink2URL: http://documentation.renesas.com/eng/products/mpumcu/rej09b0027_h83687.pdf; ComponentLink3Description: Packaging Specification; ComponentLink3URL: http://sg.renesas.com/media/products/common_info/package/pdf/ic/code/prqp0064gb_a.pdf
footprint PRQP0064GB-A_N (QFP, 64-Leads, Body 14x14mm, Pitch 0.8mm, IPC Medium Density)
footprint PRQP0064GB-A_L (QFP, 64-Leads, Body 14x14mm, Pitch 0.8mm, IPC High Density)
footprint PRQP0064GB-A_M (QFP, 64-Leads, Body 14x14mm, Pitch 0.8mm, IPC Low Density)
pins: 1 PB6/AN6 (in), 2 PB7/AN7 (in), 3 AVCC (power), 4 X2, 5 X1, 6 VCL (power), 7 ~{RES} (in), 8 ~{TEST} (in), 9 VSS (power), 10 OSC2 (out), 11 OSC1 (in), 12 VCC (power), 13 P50/~{WKP0} (io), 14 P51/~{WKP1} (io), 15 P34 (io), 16 P35 (io), 17 P36 (io), 18 P37 (io), 19 P52/~{WKP2} (io), 20 P53/~{WKP3} (io), 21 P54/~{WKP4} (io), 22 P55/~{WKP5}/~{ADTRG} (io), 23 P10/TMOW (io), 24 P11/PWM (io), 25 P12 (io), 26 P56/SDA (io), 27 P57/SCL (io), 28 P74/TMRIV (io), 29 P75/TMCIV (io), 30 P76/TMOV (io), 31 P24 (io), 32 P63/FTIOD0 (io), 33 P62/FTIOC0 (io), 34 P61/FTIOB0 (io), 35 ~{NMI} (in), 36 P60/FTIOA0 (io), 37 P64/FTIOA1 (io), 38 P65/FTIOB1 (io), 39 P66/FTIOC1 (io), 40 P67/FTIOD1 (io), 41 P85 (io), 42 P86 (io), 43 P87 (io), 44 P20/SCK3 (io), 45 P21/RXD (io), 46 P22/TXD (io), 47 P23 (io), 48 P70/SCK3_2 (io), 49 P71/RXD_2 (io), 50 P72/TXD_2 (io), 51 P14/~{IRQ0} (io), 52 P15/~{IRQ1}/TMIB1 (io), 53 P16/~{IRQ2} (io), 54 P17/~{IRQ3}/TRGV (io), 55 P33 (io), 56 P32 (io), 57 P31 (io), 58 P30 (io), 59 PB3/AN3 (in), 60 PB2/AN2 (in), 61 PB1/AN1 (in), 62 PB0/AN0 (in), 63 PB4/AN4 (in), 64 PB5/AN5 (in)

## HD6433682XXXFP
designator U?
H8 Family 32/16-bit CISC, H8/300H Tiny, 16K ROM, 3K RAM, 1 to 10MHz, 2.7 to 5.5V, 64-Pin QFP; Published: 28-Aug-2009; DatasheetVersion: Rev.5.00, Nov-2005; PackageVersion: Sep-2005; PackageReference: PLQP0064KC-A; Publisher: Altium Limited; PackageDescription: 64-Pin Plastic Low Profile QFP, 10 x 10 x 1.45 mm Body, 0.5 mm Pitch; Code_JEITA: P-LQFP64-10x10-0.50; Code_IPC: SQFP50P1200X1200-64; ComponentLink1Description: Manufacturer Link; ComponentLink1URL: http://sg.renesas.com/fmwk.jsp?cnt=h8_family_landing.jsp&fp=/products/mpumcu/h8_family/; ComponentLink2Description: Datasheet; ComponentLink2URL: http://documentation.renesas.com/eng/products/mpumcu/rej09b0027_h83687.pdf; ComponentLink3Description: Packaging Specification; ComponentLink3URL: http://sg.renesas.com/media/products/common_info/package/pdf/ic/code/plqp0064kc_a.pdf
footprint PLQP0064KC-A_N (Shrink QFP, 64-Leads, Body 10x10mm, Pitch 0.5mm, IPC Medium Density)
footprint PLQP0064KC-A_L (Shrink QFP, 64-Leads, Body 10x10mm, Pitch 0.5mm, IPC High Density)
footprint PLQP0064KC-A_M (Shrink QFP, 64-Leads, Body 10x10mm, Pitch 0.5mm, IPC Low Density)
pins: 1 PB6/AN6 (in), 2 PB7/AN7 (in), 3 AVCC (power), 4 X2, 5 X1, 6 VCL (power), 7 ~{RES} (in), 8 ~{TEST} (in), 9 VSS (power), 10 OSC2 (out), 11 OSC1 (in), 12 VCC (power), 13 P50/~{WKP0} (io), 14 P51/~{WKP1} (io), 15 P34 (io), 16 P35 (io), 17 P36 (io), 18 P37 (io), 19 P52/~{WKP2} (io), 20 P53/~{WKP3} (io), 21 P54/~{WKP4} (io), 22 P55/~{WKP5}/~{ADTRG} (io), 23 P10/TMOW (io), 24 P11/PWM (io), 25 P12 (io), 26 P56/SDA (io), 27 P57/SCL (io), 28 P74/TMRIV (io), 29 P75/TMCIV (io), 30 P76/TMOV (io), 31 P24 (io), 32 P63/FTIOD0 (io), 33 P62/FTIOC0 (io), 34 P61/FTIOB0 (io), 35 ~{NMI} (in), 36 P60/FTIOA0 (io), 37 P64/FTIOA1 (io), 38 P65/FTIOB1 (io), 39 P66/FTIOC1 (io), 40 P67/FTIOD1 (io), 41 P85 (io), 42 P86 (io), 43 P87 (io), 44 P20/SCK3 (io), 45 P21/RXD (io), 46 P22/TXD (io), 47 P23 (io), 48 P70/SCK3_2 (io), 49 P71/RXD_2 (io), 50 P72/TXD_2 (io), 51 P14/~{IRQ0} (io), 52 P15/~{IRQ1}/TMIB1 (io), 53 P16/~{IRQ2} (io), 54 P17/~{IRQ3}/TRGV (io), 55 P33 (io), 56 P32 (io), 57 P31 (io), 58 P30 (io), 59 PB3/AN3 (in), 60 PB2/AN2 (in), 61 PB1/AN1 (in), 62 PB0/AN0 (in), 63 PB4/AN4 (in), 64 PB5/AN5 (in)

## HD6433682XXXH
designator U?
H8 Family 32/16-bit CISC, H8/300H Tiny, 16K ROM, 3K RAM, 1 to 10MHz, 2.7 to 5.5V, 64-Pin QFP; Published: 28-Aug-2009; DatasheetVersion: Rev.5.00, Nov-2005; PackageVersion: Sep-2005; PackageReference: PRQP0064GB-A; Publisher: Altium Limited; PackageDescription: 64-Pin Plastic Quad Flat Pack, 14 x 14 x 2.7 mm Body, 0.8 mm Pitch; Code_JEITA: P-QFP64-14x14-0.80; ComponentLink1Description: Manufacturer Link; ComponentLink1URL: http://sg.renesas.com/fmwk.jsp?cnt=h8_family_landing.jsp&fp=/products/mpumcu/h8_family/; ComponentLink2Description: Datasheet; ComponentLink2URL: http://documentation.renesas.com/eng/products/mpumcu/rej09b0027_h83687.pdf; ComponentLink3Description: Packaging Specification; ComponentLink3URL: http://sg.renesas.com/media/products/common_info/package/pdf/ic/code/prqp0064gb_a.pdf
footprint PRQP0064GB-A_N (QFP, 64-Leads, Body 14x14mm, Pitch 0.8mm, IPC Medium Density)
footprint PRQP0064GB-A_L (QFP, 64-Leads, Body 14x14mm, Pitch 0.8mm, IPC High Density)
footprint PRQP0064GB-A_M (QFP, 64-Leads, Body 14x14mm, Pitch 0.8mm, IPC Low Density)
pins: 1 PB6/AN6 (in), 2 PB7/AN7 (in), 3 AVCC (power), 4 X2, 5 X1, 6 VCL (power), 7 ~{RES} (in), 8 ~{TEST} (in), 9 VSS (power), 10 OSC2 (out), 11 OSC1 (in), 12 VCC (power), 13 P50/~{WKP0} (io), 14 P51/~{WKP1} (io), 15 P34 (io), 16 P35 (io), 17 P36 (io), 18 P37 (io), 19 P52/~{WKP2} (io), 20 P53/~{WKP3} (io), 21 P54/~{WKP4} (io), 22 P55/~{WKP5}/~{ADTRG} (io), 23 P10/TMOW (io), 24 P11/PWM (io), 25 P12 (io), 26 P56/SDA (io), 27 P57/SCL (io), 28 P74/TMRIV (io), 29 P75/TMCIV (io), 30 P76/TMOV (io), 31 P24 (io), 32 P63/FTIOD0 (io), 33 P62/FTIOC0 (io), 34 P61/FTIOB0 (io), 35 ~{NMI} (in), 36 P60/FTIOA0 (io), 37 P64/FTIOA1 (io), 38 P65/FTIOB1 (io), 39 P66/FTIOC1 (io), 40 P67/FTIOD1 (io), 41 P85 (io), 42 P86 (io), 43 P87 (io), 44 P20/SCK3 (io), 45 P21/RXD (io), 46 P22/TXD (io), 47 P23 (io), 48 P70/SCK3_2 (io), 49 P71/RXD_2 (io), 50 P72/TXD_2 (io), 51 P14/~{IRQ0} (io), 52 P15/~{IRQ1}/TMIB1 (io), 53 P16/~{IRQ2} (io), 54 P17/~{IRQ3}/TRGV (io), 55 P33 (io), 56 P32 (io), 57 P31 (io), 58 P30 (io), 59 PB3/AN3 (in), 60 PB2/AN2 (in), 61 PB1/AN1 (in), 62 PB0/AN0 (in), 63 PB4/AN4 (in), 64 PB5/AN5 (in)

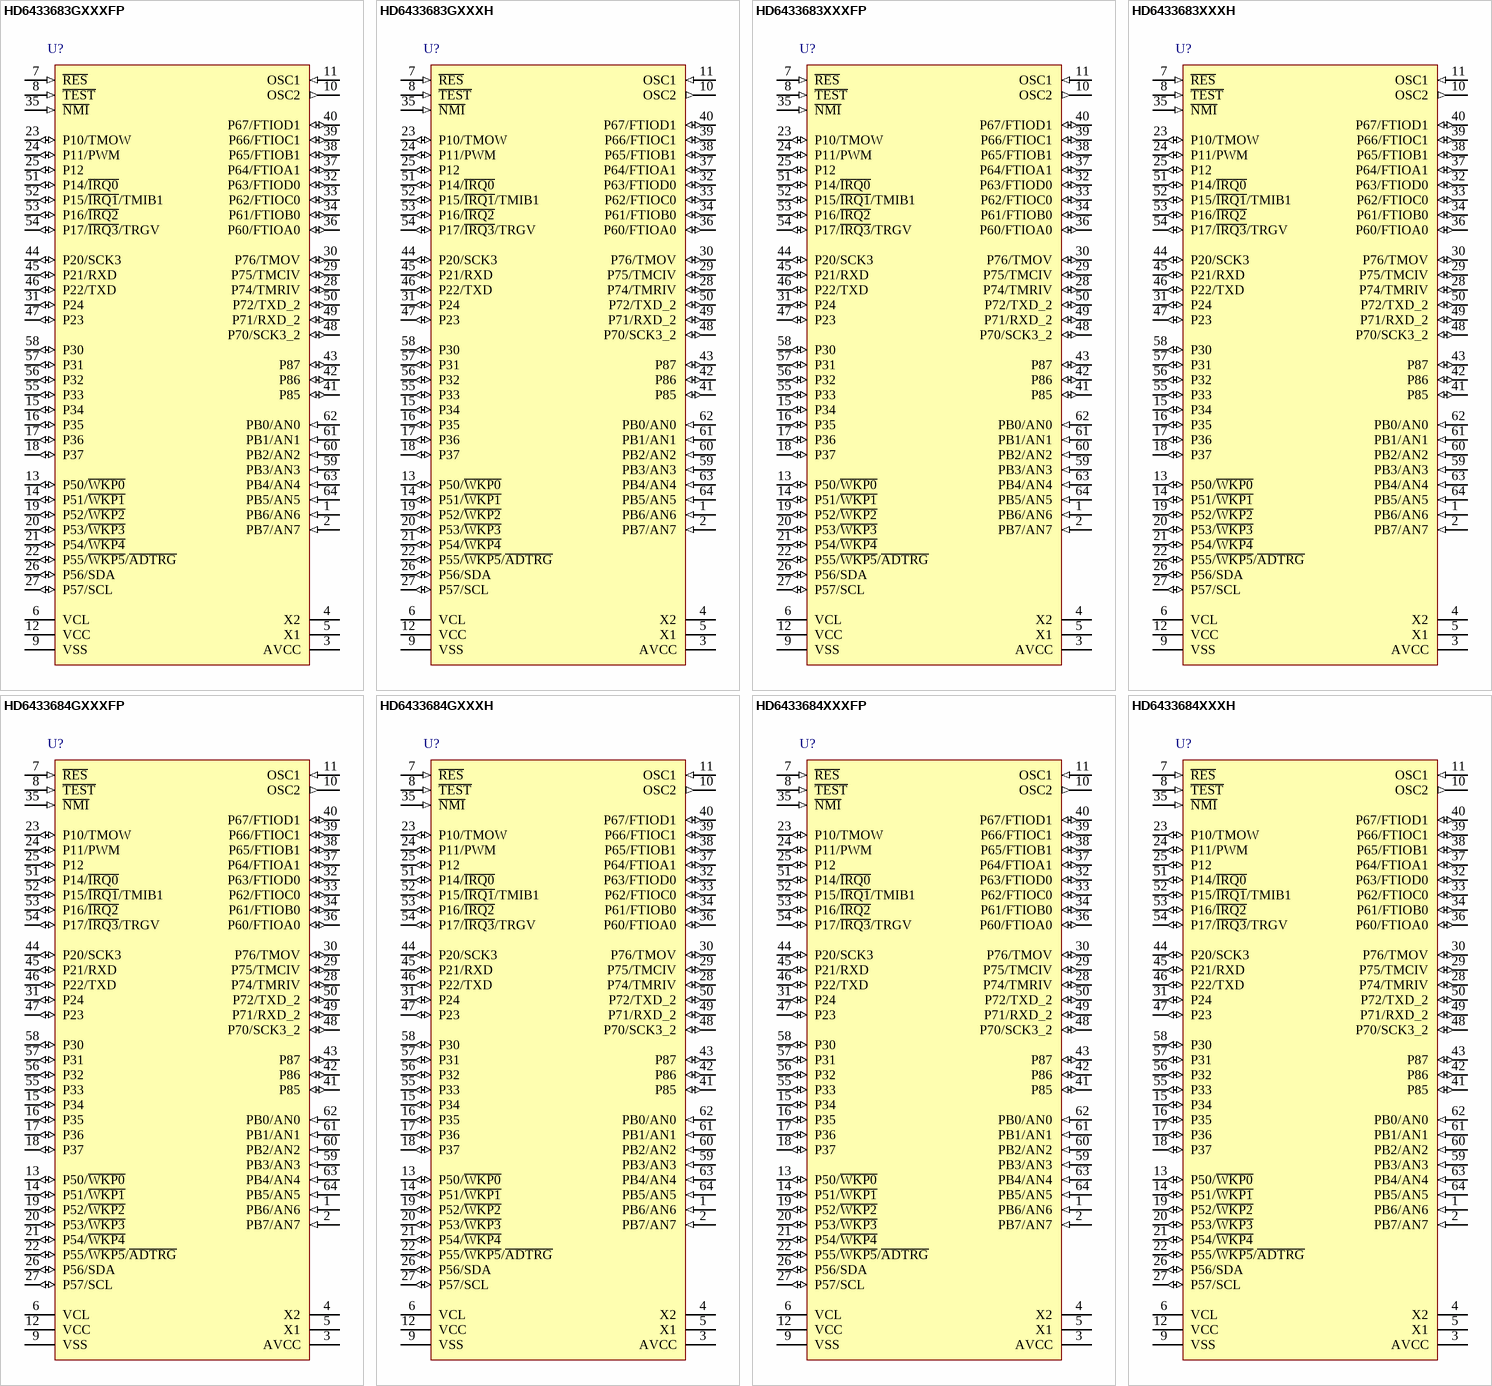
[diagram p56: symbols HD6433683GXXXFP to HD6433684XXXH]

## HD6433683GXXXFP
designator U?
H8 Family 32/16-bit CISC, H8/300H Tiny, 24K ROM, 3K RAM, 1 to 10MHz, 2.7 to 5.5V, 64-Pin QFP; Published: 28-Aug-2009; DatasheetVersion: Rev.5.00, Nov-2005; PackageVersion: Sep-2005; PackageReference: PLQP0064KC-A; Publisher: Altium Limited; PackageDescription: 64-Pin Plastic Low Profile QFP, 10 x 10 x 1.45 mm Body, 0.5 mm Pitch; Code_JEITA: P-LQFP64-10x10-0.50; Code_IPC: SQFP50P1200X1200-64; ComponentLink1Description: Manufacturer Link; ComponentLink1URL: http://sg.renesas.com/fmwk.jsp?cnt=h8_family_landing.jsp&fp=/products/mpumcu/h8_family/; ComponentLink2Description: Datasheet; ComponentLink2URL: http://documentation.renesas.com/eng/products/mpumcu/rej09b0027_h83687.pdf; ComponentLink3Description: Packaging Specification; ComponentLink3URL: http://sg.renesas.com/media/products/common_info/package/pdf/ic/code/plqp0064kc_a.pdf
footprint PLQP0064KC-A_N (Shrink QFP, 64-Leads, Body 10x10mm, Pitch 0.5mm, IPC Medium Density)
footprint PLQP0064KC-A_L (Shrink QFP, 64-Leads, Body 10x10mm, Pitch 0.5mm, IPC High Density)
footprint PLQP0064KC-A_M (Shrink QFP, 64-Leads, Body 10x10mm, Pitch 0.5mm, IPC Low Density)
pins: 1 PB6/AN6 (in), 2 PB7/AN7 (in), 3 AVCC (power), 4 X2, 5 X1, 6 VCL (power), 7 ~{RES} (in), 8 ~{TEST} (in), 9 VSS (power), 10 OSC2 (out), 11 OSC1 (in), 12 VCC (power), 13 P50/~{WKP0} (io), 14 P51/~{WKP1} (io), 15 P34 (io), 16 P35 (io), 17 P36 (io), 18 P37 (io), 19 P52/~{WKP2} (io), 20 P53/~{WKP3} (io), 21 P54/~{WKP4} (io), 22 P55/~{WKP5}/~{ADTRG} (io), 23 P10/TMOW (io), 24 P11/PWM (io), 25 P12 (io), 26 P56/SDA (io), 27 P57/SCL (io), 28 P74/TMRIV (io), 29 P75/TMCIV (io), 30 P76/TMOV (io), 31 P24 (io), 32 P63/FTIOD0 (io), 33 P62/FTIOC0 (io), 34 P61/FTIOB0 (io), 35 ~{NMI} (in), 36 P60/FTIOA0 (io), 37 P64/FTIOA1 (io), 38 P65/FTIOB1 (io), 39 P66/FTIOC1 (io), 40 P67/FTIOD1 (io), 41 P85 (io), 42 P86 (io), 43 P87 (io), 44 P20/SCK3 (io), 45 P21/RXD (io), 46 P22/TXD (io), 47 P23 (io), 48 P70/SCK3_2 (io), 49 P71/RXD_2 (io), 50 P72/TXD_2 (io), 51 P14/~{IRQ0} (io), 52 P15/~{IRQ1}/TMIB1 (io), 53 P16/~{IRQ2} (io), 54 P17/~{IRQ3}/TRGV (io), 55 P33 (io), 56 P32 (io), 57 P31 (io), 58 P30 (io), 59 PB3/AN3 (in), 60 PB2/AN2 (in), 61 PB1/AN1 (in), 62 PB0/AN0 (in), 63 PB4/AN4 (in), 64 PB5/AN5 (in)

## HD6433683GXXXH
designator U?
H8 Family 32/16-bit CISC, H8/300H Tiny, 24K ROM, 3K RAM, 1 to 10MHz, 2.7 to 5.5V, 64-Pin QFP; Published: 28-Aug-2009; DatasheetVersion: Rev.5.00, Nov-2005; PackageVersion: Sep-2005; PackageReference: PRQP0064GB-A; Publisher: Altium Limited; PackageDescription: 64-Pin Plastic Quad Flat Pack, 14 x 14 x 2.7 mm Body, 0.8 mm Pitch; Code_JEITA: P-QFP64-14x14-0.80; ComponentLink1Description: Manufacturer Link; ComponentLink1URL: http://sg.renesas.com/fmwk.jsp?cnt=h8_family_landing.jsp&fp=/products/mpumcu/h8_family/; ComponentLink2Description: Datasheet; ComponentLink2URL: http://documentation.renesas.com/eng/products/mpumcu/rej09b0027_h83687.pdf; ComponentLink3Description: Packaging Specification; ComponentLink3URL: http://sg.renesas.com/media/products/common_info/package/pdf/ic/code/prqp0064gb_a.pdf
footprint PRQP0064GB-A_N (QFP, 64-Leads, Body 14x14mm, Pitch 0.8mm, IPC Medium Density)
footprint PRQP0064GB-A_L (QFP, 64-Leads, Body 14x14mm, Pitch 0.8mm, IPC High Density)
footprint PRQP0064GB-A_M (QFP, 64-Leads, Body 14x14mm, Pitch 0.8mm, IPC Low Density)
pins: 1 PB6/AN6 (in), 2 PB7/AN7 (in), 3 AVCC (power), 4 X2, 5 X1, 6 VCL (power), 7 ~{RES} (in), 8 ~{TEST} (in), 9 VSS (power), 10 OSC2 (out), 11 OSC1 (in), 12 VCC (power), 13 P50/~{WKP0} (io), 14 P51/~{WKP1} (io), 15 P34 (io), 16 P35 (io), 17 P36 (io), 18 P37 (io), 19 P52/~{WKP2} (io), 20 P53/~{WKP3} (io), 21 P54/~{WKP4} (io), 22 P55/~{WKP5}/~{ADTRG} (io), 23 P10/TMOW (io), 24 P11/PWM (io), 25 P12 (io), 26 P56/SDA (io), 27 P57/SCL (io), 28 P74/TMRIV (io), 29 P75/TMCIV (io), 30 P76/TMOV (io), 31 P24 (io), 32 P63/FTIOD0 (io), 33 P62/FTIOC0 (io), 34 P61/FTIOB0 (io), 35 ~{NMI} (in), 36 P60/FTIOA0 (io), 37 P64/FTIOA1 (io), 38 P65/FTIOB1 (io), 39 P66/FTIOC1 (io), 40 P67/FTIOD1 (io), 41 P85 (io), 42 P86 (io), 43 P87 (io), 44 P20/SCK3 (io), 45 P21/RXD (io), 46 P22/TXD (io), 47 P23 (io), 48 P70/SCK3_2 (io), 49 P71/RXD_2 (io), 50 P72/TXD_2 (io), 51 P14/~{IRQ0} (io), 52 P15/~{IRQ1}/TMIB1 (io), 53 P16/~{IRQ2} (io), 54 P17/~{IRQ3}/TRGV (io), 55 P33 (io), 56 P32 (io), 57 P31 (io), 58 P30 (io), 59 PB3/AN3 (in), 60 PB2/AN2 (in), 61 PB1/AN1 (in), 62 PB0/AN0 (in), 63 PB4/AN4 (in), 64 PB5/AN5 (in)

## HD6433683XXXFP
designator U?
H8 Family 32/16-bit CISC, H8/300H Tiny, 24K ROM, 3K RAM, 1 to 10MHz, 2.7 to 5.5V, 64-Pin QFP; Published: 28-Aug-2009; DatasheetVersion: Rev.5.00, Nov-2005; PackageVersion: Sep-2005; PackageReference: PLQP0064KC-A; Publisher: Altium Limited; PackageDescription: 64-Pin Plastic Low Profile QFP, 10 x 10 x 1.45 mm Body, 0.5 mm Pitch; Code_JEITA: P-LQFP64-10x10-0.50; Code_IPC: SQFP50P1200X1200-64; ComponentLink1Description: Manufacturer Link; ComponentLink1URL: http://sg.renesas.com/fmwk.jsp?cnt=h8_family_landing.jsp&fp=/products/mpumcu/h8_family/; ComponentLink2Description: Datasheet; ComponentLink2URL: http://documentation.renesas.com/eng/products/mpumcu/rej09b0027_h83687.pdf; ComponentLink3Description: Packaging Specification; ComponentLink3URL: http://sg.renesas.com/media/products/common_info/package/pdf/ic/code/plqp0064kc_a.pdf
footprint PLQP0064KC-A_N (Shrink QFP, 64-Leads, Body 10x10mm, Pitch 0.5mm, IPC Medium Density)
footprint PLQP0064KC-A_L (Shrink QFP, 64-Leads, Body 10x10mm, Pitch 0.5mm, IPC High Density)
footprint PLQP0064KC-A_M (Shrink QFP, 64-Leads, Body 10x10mm, Pitch 0.5mm, IPC Low Density)
pins: 1 PB6/AN6 (in), 2 PB7/AN7 (in), 3 AVCC (power), 4 X2, 5 X1, 6 VCL (power), 7 ~{RES} (in), 8 ~{TEST} (in), 9 VSS (power), 10 OSC2 (out), 11 OSC1 (in), 12 VCC (power), 13 P50/~{WKP0} (io), 14 P51/~{WKP1} (io), 15 P34 (io), 16 P35 (io), 17 P36 (io), 18 P37 (io), 19 P52/~{WKP2} (io), 20 P53/~{WKP3} (io), 21 P54/~{WKP4} (io), 22 P55/~{WKP5}/~{ADTRG} (io), 23 P10/TMOW (io), 24 P11/PWM (io), 25 P12 (io), 26 P56/SDA (io), 27 P57/SCL (io), 28 P74/TMRIV (io), 29 P75/TMCIV (io), 30 P76/TMOV (io), 31 P24 (io), 32 P63/FTIOD0 (io), 33 P62/FTIOC0 (io), 34 P61/FTIOB0 (io), 35 ~{NMI} (in), 36 P60/FTIOA0 (io), 37 P64/FTIOA1 (io), 38 P65/FTIOB1 (io), 39 P66/FTIOC1 (io), 40 P67/FTIOD1 (io), 41 P85 (io), 42 P86 (io), 43 P87 (io), 44 P20/SCK3 (io), 45 P21/RXD (io), 46 P22/TXD (io), 47 P23 (io), 48 P70/SCK3_2 (io), 49 P71/RXD_2 (io), 50 P72/TXD_2 (io), 51 P14/~{IRQ0} (io), 52 P15/~{IRQ1}/TMIB1 (io), 53 P16/~{IRQ2} (io), 54 P17/~{IRQ3}/TRGV (io), 55 P33 (io), 56 P32 (io), 57 P31 (io), 58 P30 (io), 59 PB3/AN3 (in), 60 PB2/AN2 (in), 61 PB1/AN1 (in), 62 PB0/AN0 (in), 63 PB4/AN4 (in), 64 PB5/AN5 (in)

## HD6433683XXXH
designator U?
H8 Family 32/16-bit CISC, H8/300H Tiny, 24K ROM, 3K RAM, 1 to 10MHz, 2.7 to 5.5V, 64-Pin QFP; Published: 28-Aug-2009; DatasheetVersion: Rev.5.00, Nov-2005; PackageVersion: Sep-2005; PackageReference: PRQP0064GB-A; Publisher: Altium Limited; PackageDescription: 64-Pin Plastic Quad Flat Pack, 14 x 14 x 2.7 mm Body, 0.8 mm Pitch; Code_JEITA: P-QFP64-14x14-0.80; ComponentLink1Description: Manufacturer Link; ComponentLink1URL: http://sg.renesas.com/fmwk.jsp?cnt=h8_family_landing.jsp&fp=/products/mpumcu/h8_family/; ComponentLink2Description: Datasheet; ComponentLink2URL: http://documentation.renesas.com/eng/products/mpumcu/rej09b0027_h83687.pdf; ComponentLink3Description: Packaging Specification; ComponentLink3URL: http://sg.renesas.com/media/products/common_info/package/pdf/ic/code/prqp0064gb_a.pdf
footprint PRQP0064GB-A_N (QFP, 64-Leads, Body 14x14mm, Pitch 0.8mm, IPC Medium Density)
footprint PRQP0064GB-A_L (QFP, 64-Leads, Body 14x14mm, Pitch 0.8mm, IPC High Density)
footprint PRQP0064GB-A_M (QFP, 64-Leads, Body 14x14mm, Pitch 0.8mm, IPC Low Density)
pins: 1 PB6/AN6 (in), 2 PB7/AN7 (in), 3 AVCC (power), 4 X2, 5 X1, 6 VCL (power), 7 ~{RES} (in), 8 ~{TEST} (in), 9 VSS (power), 10 OSC2 (out), 11 OSC1 (in), 12 VCC (power), 13 P50/~{WKP0} (io), 14 P51/~{WKP1} (io), 15 P34 (io), 16 P35 (io), 17 P36 (io), 18 P37 (io), 19 P52/~{WKP2} (io), 20 P53/~{WKP3} (io), 21 P54/~{WKP4} (io), 22 P55/~{WKP5}/~{ADTRG} (io), 23 P10/TMOW (io), 24 P11/PWM (io), 25 P12 (io), 26 P56/SDA (io), 27 P57/SCL (io), 28 P74/TMRIV (io), 29 P75/TMCIV (io), 30 P76/TMOV (io), 31 P24 (io), 32 P63/FTIOD0 (io), 33 P62/FTIOC0 (io), 34 P61/FTIOB0 (io), 35 ~{NMI} (in), 36 P60/FTIOA0 (io), 37 P64/FTIOA1 (io), 38 P65/FTIOB1 (io), 39 P66/FTIOC1 (io), 40 P67/FTIOD1 (io), 41 P85 (io), 42 P86 (io), 43 P87 (io), 44 P20/SCK3 (io), 45 P21/RXD (io), 46 P22/TXD (io), 47 P23 (io), 48 P70/SCK3_2 (io), 49 P71/RXD_2 (io), 50 P72/TXD_2 (io), 51 P14/~{IRQ0} (io), 52 P15/~{IRQ1}/TMIB1 (io), 53 P16/~{IRQ2} (io), 54 P17/~{IRQ3}/TRGV (io), 55 P33 (io), 56 P32 (io), 57 P31 (io), 58 P30 (io), 59 PB3/AN3 (in), 60 PB2/AN2 (in), 61 PB1/AN1 (in), 62 PB0/AN0 (in), 63 PB4/AN4 (in), 64 PB5/AN5 (in)

## HD6433684GXXXFP
designator U?
H8 Family 32/16-bit CISC, H8/300H Tiny, 32K ROM, 3K RAM, 1 to 10MHz, 2.7 to 5.5V, 64-Pin QFP; Published: 28-Aug-2009; DatasheetVersion: Rev.5.00, Nov-2005; PackageVersion: Sep-2005; PackageReference: PLQP0064KC-A; Publisher: Altium Limited; PackageDescription: 64-Pin Plastic Low Profile QFP, 10 x 10 x 1.45 mm Body, 0.5 mm Pitch; Code_JEITA: P-LQFP64-10x10-0.50; Code_IPC: SQFP50P1200X1200-64; ComponentLink1Description: Manufacturer Link; ComponentLink1URL: http://sg.renesas.com/fmwk.jsp?cnt=h8_family_landing.jsp&fp=/products/mpumcu/h8_family/; ComponentLink2Description: Datasheet; ComponentLink2URL: http://documentation.renesas.com/eng/products/mpumcu/rej09b0027_h83687.pdf; ComponentLink3Description: Packaging Specification; ComponentLink3URL: http://sg.renesas.com/media/products/common_info/package/pdf/ic/code/plqp0064kc_a.pdf
footprint PLQP0064KC-A_N (Shrink QFP, 64-Leads, Body 10x10mm, Pitch 0.5mm, IPC Medium Density)
footprint PLQP0064KC-A_L (Shrink QFP, 64-Leads, Body 10x10mm, Pitch 0.5mm, IPC High Density)
footprint PLQP0064KC-A_M (Shrink QFP, 64-Leads, Body 10x10mm, Pitch 0.5mm, IPC Low Density)
pins: 1 PB6/AN6 (in), 2 PB7/AN7 (in), 3 AVCC (power), 4 X2, 5 X1, 6 VCL (power), 7 ~{RES} (in), 8 ~{TEST} (in), 9 VSS (power), 10 OSC2 (out), 11 OSC1 (in), 12 VCC (power), 13 P50/~{WKP0} (io), 14 P51/~{WKP1} (io), 15 P34 (io), 16 P35 (io), 17 P36 (io), 18 P37 (io), 19 P52/~{WKP2} (io), 20 P53/~{WKP3} (io), 21 P54/~{WKP4} (io), 22 P55/~{WKP5}/~{ADTRG} (io), 23 P10/TMOW (io), 24 P11/PWM (io), 25 P12 (io), 26 P56/SDA (io), 27 P57/SCL (io), 28 P74/TMRIV (io), 29 P75/TMCIV (io), 30 P76/TMOV (io), 31 P24 (io), 32 P63/FTIOD0 (io), 33 P62/FTIOC0 (io), 34 P61/FTIOB0 (io), 35 ~{NMI} (in), 36 P60/FTIOA0 (io), 37 P64/FTIOA1 (io), 38 P65/FTIOB1 (io), 39 P66/FTIOC1 (io), 40 P67/FTIOD1 (io), 41 P85 (io), 42 P86 (io), 43 P87 (io), 44 P20/SCK3 (io), 45 P21/RXD (io), 46 P22/TXD (io), 47 P23 (io), 48 P70/SCK3_2 (io), 49 P71/RXD_2 (io), 50 P72/TXD_2 (io), 51 P14/~{IRQ0} (io), 52 P15/~{IRQ1}/TMIB1 (io), 53 P16/~{IRQ2} (io), 54 P17/~{IRQ3}/TRGV (io), 55 P33 (io), 56 P32 (io), 57 P31 (io), 58 P30 (io), 59 PB3/AN3 (in), 60 PB2/AN2 (in), 61 PB1/AN1 (in), 62 PB0/AN0 (in), 63 PB4/AN4 (in), 64 PB5/AN5 (in)

## HD6433684GXXXH
designator U?
H8 Family 32/16-bit CISC, H8/300H Tiny, 32K ROM, 3K RAM, 1 to 10MHz, 2.7 to 5.5V, 64-Pin QFP; Published: 28-Aug-2009; DatasheetVersion: Rev.5.00, Nov-2005; PackageVersion: Sep-2005; PackageReference: PRQP0064GB-A; Publisher: Altium Limited; PackageDescription: 64-Pin Plastic Quad Flat Pack, 14 x 14 x 2.7 mm Body, 0.8 mm Pitch; Code_JEITA: P-QFP64-14x14-0.80; ComponentLink1Description: Manufacturer Link; ComponentLink1URL: http://sg.renesas.com/fmwk.jsp?cnt=h8_family_landing.jsp&fp=/products/mpumcu/h8_family/; ComponentLink2Description: Datasheet; ComponentLink2URL: http://documentation.renesas.com/eng/products/mpumcu/rej09b0027_h83687.pdf; ComponentLink3Description: Packaging Specification; ComponentLink3URL: http://sg.renesas.com/media/products/common_info/package/pdf/ic/code/prqp0064gb_a.pdf
footprint PRQP0064GB-A_N (QFP, 64-Leads, Body 14x14mm, Pitch 0.8mm, IPC Medium Density)
footprint PRQP0064GB-A_L (QFP, 64-Leads, Body 14x14mm, Pitch 0.8mm, IPC High Density)
footprint PRQP0064GB-A_M (QFP, 64-Leads, Body 14x14mm, Pitch 0.8mm, IPC Low Density)
pins: 1 PB6/AN6 (in), 2 PB7/AN7 (in), 3 AVCC (power), 4 X2, 5 X1, 6 VCL (power), 7 ~{RES} (in), 8 ~{TEST} (in), 9 VSS (power), 10 OSC2 (out), 11 OSC1 (in), 12 VCC (power), 13 P50/~{WKP0} (io), 14 P51/~{WKP1} (io), 15 P34 (io), 16 P35 (io), 17 P36 (io), 18 P37 (io), 19 P52/~{WKP2} (io), 20 P53/~{WKP3} (io), 21 P54/~{WKP4} (io), 22 P55/~{WKP5}/~{ADTRG} (io), 23 P10/TMOW (io), 24 P11/PWM (io), 25 P12 (io), 26 P56/SDA (io), 27 P57/SCL (io), 28 P74/TMRIV (io), 29 P75/TMCIV (io), 30 P76/TMOV (io), 31 P24 (io), 32 P63/FTIOD0 (io), 33 P62/FTIOC0 (io), 34 P61/FTIOB0 (io), 35 ~{NMI} (in), 36 P60/FTIOA0 (io), 37 P64/FTIOA1 (io), 38 P65/FTIOB1 (io), 39 P66/FTIOC1 (io), 40 P67/FTIOD1 (io), 41 P85 (io), 42 P86 (io), 43 P87 (io), 44 P20/SCK3 (io), 45 P21/RXD (io), 46 P22/TXD (io), 47 P23 (io), 48 P70/SCK3_2 (io), 49 P71/RXD_2 (io), 50 P72/TXD_2 (io), 51 P14/~{IRQ0} (io), 52 P15/~{IRQ1}/TMIB1 (io), 53 P16/~{IRQ2} (io), 54 P17/~{IRQ3}/TRGV (io), 55 P33 (io), 56 P32 (io), 57 P31 (io), 58 P30 (io), 59 PB3/AN3 (in), 60 PB2/AN2 (in), 61 PB1/AN1 (in), 62 PB0/AN0 (in), 63 PB4/AN4 (in), 64 PB5/AN5 (in)

## HD6433684XXXFP
designator U?
H8 Family 32/16-bit CISC, H8/300H Tiny, 32K ROM, 3K RAM, 1 to 10MHz, 2.7 to 5.5V, 64-Pin QFP; Published: 28-Aug-2009; DatasheetVersion: Rev.5.00, Nov-2005; PackageVersion: Sep-2005; PackageReference: PLQP0064KC-A; Publisher: Altium Limited; PackageDescription: 64-Pin Plastic Low Profile QFP, 10 x 10 x 1.45 mm Body, 0.5 mm Pitch; Code_JEITA: P-LQFP64-10x10-0.50; Code_IPC: SQFP50P1200X1200-64; ComponentLink1Description: Manufacturer Link; ComponentLink1URL: http://sg.renesas.com/fmwk.jsp?cnt=h8_family_landing.jsp&fp=/products/mpumcu/h8_family/; ComponentLink2Description: Datasheet; ComponentLink2URL: http://documentation.renesas.com/eng/products/mpumcu/rej09b0027_h83687.pdf; ComponentLink3Description: Packaging Specification; ComponentLink3URL: http://sg.renesas.com/media/products/common_info/package/pdf/ic/code/plqp0064kc_a.pdf
footprint PLQP0064KC-A_N (Shrink QFP, 64-Leads, Body 10x10mm, Pitch 0.5mm, IPC Medium Density)
footprint PLQP0064KC-A_L (Shrink QFP, 64-Leads, Body 10x10mm, Pitch 0.5mm, IPC High Density)
footprint PLQP0064KC-A_M (Shrink QFP, 64-Leads, Body 10x10mm, Pitch 0.5mm, IPC Low Density)
pins: 1 PB6/AN6 (in), 2 PB7/AN7 (in), 3 AVCC (power), 4 X2, 5 X1, 6 VCL (power), 7 ~{RES} (in), 8 ~{TEST} (in), 9 VSS (power), 10 OSC2 (out), 11 OSC1 (in), 12 VCC (power), 13 P50/~{WKP0} (io), 14 P51/~{WKP1} (io), 15 P34 (io), 16 P35 (io), 17 P36 (io), 18 P37 (io), 19 P52/~{WKP2} (io), 20 P53/~{WKP3} (io), 21 P54/~{WKP4} (io), 22 P55/~{WKP5}/~{ADTRG} (io), 23 P10/TMOW (io), 24 P11/PWM (io), 25 P12 (io), 26 P56/SDA (io), 27 P57/SCL (io), 28 P74/TMRIV (io), 29 P75/TMCIV (io), 30 P76/TMOV (io), 31 P24 (io), 32 P63/FTIOD0 (io), 33 P62/FTIOC0 (io), 34 P61/FTIOB0 (io), 35 ~{NMI} (in), 36 P60/FTIOA0 (io), 37 P64/FTIOA1 (io), 38 P65/FTIOB1 (io), 39 P66/FTIOC1 (io), 40 P67/FTIOD1 (io), 41 P85 (io), 42 P86 (io), 43 P87 (io), 44 P20/SCK3 (io), 45 P21/RXD (io), 46 P22/TXD (io), 47 P23 (io), 48 P70/SCK3_2 (io), 49 P71/RXD_2 (io), 50 P72/TXD_2 (io), 51 P14/~{IRQ0} (io), 52 P15/~{IRQ1}/TMIB1 (io), 53 P16/~{IRQ2} (io), 54 P17/~{IRQ3}/TRGV (io), 55 P33 (io), 56 P32 (io), 57 P31 (io), 58 P30 (io), 59 PB3/AN3 (in), 60 PB2/AN2 (in), 61 PB1/AN1 (in), 62 PB0/AN0 (in), 63 PB4/AN4 (in), 64 PB5/AN5 (in)